# Altium footprint library TMDX654GPEVM_BRD.PcbLib: 153 footprints (part 2 of 12)
Each footprint in its own frame and in the unit in brackets; x right, y up, seen from the top. Pads: shape width x height; smd on the part's side, far side on the other; paste and mask are expansions set on the pad; w line width, h text height; cw(c..) or ccw(c..) is an arc to the next point about the centre after c.
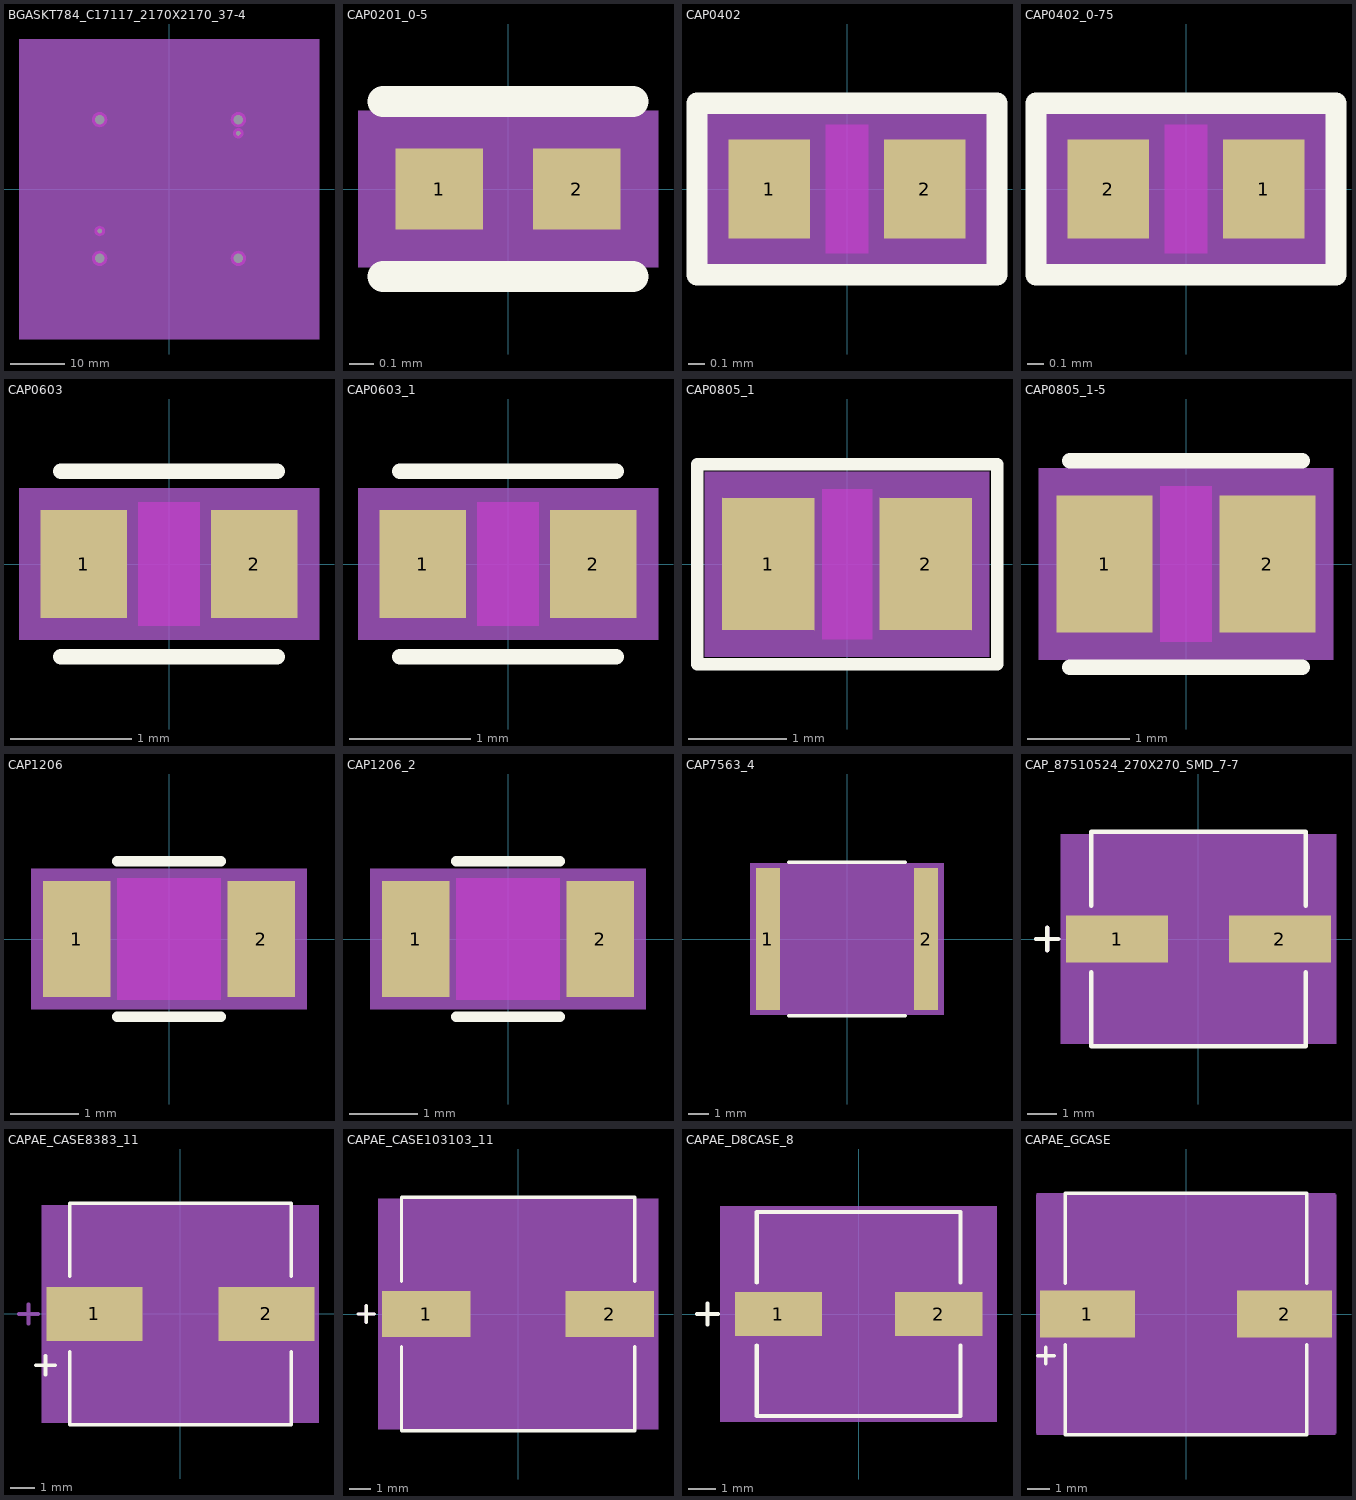
[diagram p1: the footprints below, top view; thin cyan lines are the x and y axes]

## BGASKT784_C17117_2170X2170_37-4 [mil] "BGASKT784_C17117_2170X2170_37-4"
pads (6):
  round 63 hole 68 unplated: ""(-506.4,-506.4) ""(-506.4,506.4) ""(506.4,-506.4) ""(506.4,506.4)
  round 29 hole 34 unplated: ""(-506.4,-306.4) ""(506.4,406.4)
Top Overlay:
  text ".Designator" at -970.24,-91.02 h30
Bottom Overlay:
  lines w6: -615,-615 615,-615 615,615 -615,615 -615,-615
Top Courtyard:
  dashed: -1092,-1092 1092,-1092 1092,1092 -1092,1092
Bottom Courtyard:
  dashed: -612,-612 612,-612 612,612 -612,612
Top 3D Body:
  region: -1095,-1095 1095,-1095 1095,1095 -1095,1095
Bottom 3D Body:
  region: -615,-615 615,-615 615,615 -615,615
Multi-Layer keep-out:
  drawing of 6 lines, arcs and shapes, not listed
Top Assembly:
  circle w6: c-410.43,425.2 r10
  lines w6: -555.61,-555 -555.61,555 574.39,555 574.39,-555 -555.61,-555
Bottom Assembly:
  lines w6: -605,-605 -605,605 605,605 605,-605 -605,-605
Bottom Component Outline:
  text "28" at 456,598.33 h20
  text "27" at 426,563.33 h20
  text "26" at 391,598.33 h20
  text "25" at 366,563.33 h20
  text "24" at 331,598.33 h20
  text "23" at 301,563.33 h20
  text "22" at 266,598.33 h20
  text "21" at 231,563.33 h20
  text "20" at 201,598.33 h20
  text "19" at 171,563.33 h20
  text "18" at 141,598.33 h20
  text "17" at 111,563.33 h20
  text "16" at 76,598.33 h20
  text "15" at 46,563.33 h20
  text "14" at 16,598.33 h20
  text "13" at -19,563.33 h20
  text "12" at -44,598.33 h20
  text "11" at -84,563.33 h20
  text "10" at -109,603.33 h20
  text "9" at -157.5,563.33 h20
  text "8" at -182.5,603.33 h20
  text "7" at -217.5,563.33 h20
  text "6" at -247.5,598.33 h20
  text "5" at -277.5,563.33 h20
  text "4" at -307.5,598.33 h20
  text "3" at -337.5,563.33 h20
  text "2" at -372.5,598.33 h20
  text "1" at -402.5,568.33 h20
  text "AH" at -609,-431.67 h20
  text "AG" at -569,-406.67 h20
  text "AF" at -614,-376.67 h20
  text "AE" at -574,-341.67 h20
  text "AD" at -609,-306.67 h20
  text "AC" at -574,-266.67 h20
  text "AB" at -609,-241.67 h20
  text "AA" at -574,-211.67 h20
  text "Y" at -602.5,-181.67 h20
  text "W" at -577.5,-151.67 h20
  text "V" at -602.5,-116.67 h20
  text "U" at -577.5,-86.67 h20
  text "T" at -602.5,-56.67 h20
  text "R" at -577.5,-21.67 h20
  text "P" at -602.5,8.33 h20
  text "N" at -577.5,38.33 h20
  text "M" at -602.5,73.33 h20
  text "L" at -577.5,103.33 h20
  text "K" at -602.5,133.33 h20
  text "J" at -582.5,163.33 h20
  text "H" at -602.5,198.33 h20
  text "G" at -582.5,233.33 h20
  text "F" at -602.5,263.33 h20
  text "E" at -582.5,288.33 h20
  text "D" at -597.5,328.33 h20
  text "C" at -582.5,358.33 h20
  text "B" at -597.5,388.33 h20
  text "A" at -582.5,413.33 h20
3D body: height 150, standoff 0, extent -1095,-1095 1095,1095
3D body: height 150, standoff 0, extent -615,-615 615,615

## CAP0201_0-5 [mil] "CAP0201_0-5"
pads (2):
  rect 14x13 smd: 1(-11.02,0) 2(11.02,0)
Top Overlay:
  lines w5: -20,-14 20,-14 ; -20,14 20,14
Top Courtyard:
  dashed: -24.02,-12.5 -24.02,12.5 24.02,12.5 24.02,-12.5
Top 3D Body:
  region: -22.05,-10.63 -22.05,10.63 22.05,10.63 22.05,-10.63
Mechanical 15:
  lines w6: -10,-5 10,-5 10,5 -10,5 -10,-5
  text "C436" at 1230,995.52 h30
Mechanical 16:
  lines w6: -10,-5 10,-5 10,5 -10,5 -10,-5
  text "C436" at 1230,995.52 h30
Mechanical 17:
  lines w6: -10,-5 10,-5 10,5 -10,5 -10,-5
  text "C436" at 1230,995.52 h30
Mechanical 18:
  lines w6: -10,-5 10,-5 10,5 -10,5 -10,-5
  text "C436" at 1230,995.52 h30
Mechanical 19:
  lines w6: -10,-5 10,-5 10,5 -10,5 -10,-5
  text "C436" at 1230,995.52 h30
Mechanical47:
  text "2" at 11.02,4 h10
  text "1" at -11.02,4 h10
Top Assembly:
  lines w6: -10,-5 10,-5 10,5 -10,5 -10,-5
Top Component Outline:
  text ".Designator" at 1186,1027.52 h30
3D body: height 150, standoff 0, extent -22.05,-10.63 22.05,10.63

## CAP0402 [mil] "CAP0402"
pads (2):
  rect 19x23 smd: 1(-18.11,0) 2(18.11,0)
Top Layer keep-out:
  region: -5,15 -5,-15 5,-15 5,15
Top Overlay:
  lines w5: -35,-20 -35,20 35,20 35,-20 -35,-20
  text ".Designator" at 135.98,288.5 h30
Top Courtyard:
  dashed: -34.61,-22 -34.61,22 34.61,22 34.61,-22
Top 3D Body:
  region: -31.5,-16.93 -31.5,16.93 31.5,16.93 31.5,-16.93
Mechanical 15:
  lines w6: -25,-15 -25,15 25,15 25,-15 -25,-15
  text "C659" at -69.02,-30.5 h30
Mechanical 16:
  lines w6: -25,-15 -25,15 25,15 25,-15 -25,-15
  text "C659" at -69.02,-30.5 h30
Mechanical 17:
  lines w6: -25,-15 -25,15 25,15 25,-15 -25,-15
  text "C659" at -69.02,-30.5 h30
Mechanical 18:
  lines w6: -25,-15 -25,15 25,15 25,-15 -25,-15
  text "C659" at -69.02,-30.5 h30
Mechanical 19:
  lines w6: -25,-15 -25,15 25,15 25,-15 -25,-15
  text "C659" at -69.02,-30.5 h30
Mechanical47:
  text "2" at 18.11,-4 h10
  text "1" at -18.11,-4 h10
Top Assembly:
  lines w6: -25,-15 -25,15 25,15 25,-15 -25,-15
3D body: height 150, standoff 0, extent -31.5,-16.93 31.5,16.93

## CAP0402_0-75 [mil] "CAP0402_0-75"
pads (2):
  rect 19x23 smd: 1(18.11,0) 2(-18.11,0)
Top Layer keep-out:
  region: 5,-15 5,15 -5,15 -5,-15
Top Overlay:
  lines w5: -35,-20 -35,20 35,20 35,-20 -35,-20
  text ".Designator" at 138.5,12.5 h30
Top Courtyard:
  dashed: 34.61,22 34.61,-22 -34.61,-22 -34.61,22
Top 3D Body:
  region: 31.5,16.93 31.5,-16.93 -31.5,-16.93 -31.5,16.93
Mechanical 15:
  lines w6: -25,-15 -25,15 25,15 25,-15 -25,-15
  text "C617" at 32.5,10.5 h30
Mechanical 16:
  lines w6: -25,-15 -25,15 25,15 25,-15 -25,-15
  text "C617" at 32.5,10.5 h30
Mechanical 17:
  lines w6: -25,-15 -25,15 25,15 25,-15 -25,-15
  text "C617" at 32.5,10.5 h30
Mechanical 18:
  lines w6: -25,-15 -25,15 25,15 25,-15 -25,-15
  text "C617" at 32.5,10.5 h30
Mechanical 19:
  lines w6: -25,-15 -25,15 25,15 25,-15 -25,-15
  text "C617" at 32.5,10.5 h30
Mechanical47:
  text "2" at -22.11,0 h10
  text "1" at 14.11,0 h10
Top Assembly:
  lines w6: -25,-15 -25,15 25,15 25,-15 -25,-15
3D body: height 150, standoff 0, extent -31.5,-16.93 31.5,16.93

## CAP0603 [mil] "CAP0603"
pads (2):
  rect 28x35 smd: 1(-27.56,0) 2(27.56,0)
Top Layer keep-out:
  region: -10,20 -10,-20 10,-20 10,20
Top Overlay:
  lines w5: -35,-30 35,-30 ; -35,30 35,30
  text ".Designator" at -5.02,-39.5 h30
Top Courtyard:
  dashed: -48.56,-24.5 -48.56,24.5 48.56,24.5 48.56,-24.5
Top 3D Body:
  region: -35,-20 -35,20 35,20 35,-20
Mechanical 10:
  lines w6: -35,-20 35,-20 35,20 -35,20 -35,-20
  text "C104" at 4.98,-19.5 h30
Mechanical 11:
  lines w6: -35,-20 35,-20 35,20 -35,20 -35,-20
  text "C104" at 4.98,-19.5 h30
Mechanical 12:
  lines w6: -35,-20 35,-20 35,20 -35,20 -35,-20
  text "C104" at 4.98,-19.5 h30
Mechanical 13:
  lines w6: -35,-20 35,-20 35,20 -35,20 -35,-20
  text "C104" at 4.98,-19.5 h30
Mechanical 14:
  lines w6: -35,-20 35,-20 35,20 -35,20 -35,-20
  text "C104" at 4.98,-19.5 h30
Mechanical47:
  text "2" at 27.56,4 h10
  text "1" at -27.56,4 h10
Top Assembly:
  lines w6: -35,-20 35,-20 35,20 -35,20 -35,-20
3D body: height 150, standoff 0, extent -35,-20 35,20

## CAP0603_1 [mil] "CAP0603_1"
pads (2):
  rect 28x35 smd: 1(-27.56,0) 2(27.56,0)
Top Layer keep-out:
  region: -10,20 -10,-20 10,-20 10,20
Top Overlay:
  lines w5: -35,-30 35,-30 ; -35,30 35,30
  text ".Designator" at 144.05,9.16 h30
Top Courtyard:
  dashed: -48.56,-24.5 -48.56,24.5 48.56,24.5 48.56,-24.5
Top 3D Body:
  region: -35,-20 -35,20 35,20 35,-20
Mechanical 15:
  lines w6: -35,-20 35,-20 35,20 -35,20 -35,-20
  text "C318" at -45.95,63.16 h30
Mechanical 16:
  lines w6: -35,-20 35,-20 35,20 -35,20 -35,-20
  text "C318" at -45.95,63.16 h30
Mechanical 17:
  lines w6: -35,-20 35,-20 35,20 -35,20 -35,-20
  text "C318" at -45.95,63.16 h30
Mechanical 18:
  lines w6: -35,-20 35,-20 35,20 -35,20 -35,-20
  text "C318" at -45.95,63.16 h30
Mechanical 19:
  lines w6: -35,-20 35,-20 35,20 -35,20 -35,-20
  text "C318" at -45.95,63.16 h30
Mechanical47:
  text "1" at -31.56,0 h10
  text "2" at 23.56,0 h10
Top Assembly:
  lines w6: -35,-20 35,-20 35,20 -35,20 -35,-20
3D body: height 150, standoff 0, extent -35,-20 35,20

## CAP0805_1 [mil] "CAP0805_1"
pads (2):
  rect 37x53 smd: 1(-31.5,0) 2(31.5,0)
Top Layer keep-out:
  region: -10,30 -10,-30 10,-30 10,30
Top Overlay:
  lines w5: -60,-40 -60,40 60,40 60,-40 -60,-40
  text ".Designator" at 46,90 h30
Top Courtyard:
  dashed: -57,-37 -57,37 57,37 57,-37
Top 3D Body:
  region: -45,-30 -45,30 45,30 45,-30
Mechanical 15:
  lines w6: -45,-30 45,-30 45,30 -45,30 -45,-30
  text "C681" at 43,80 h30
Mechanical 16:
  lines w6: -45,-30 45,-30 45,30 -45,30 -45,-30
  text "C681" at 43,80 h30
Mechanical 17:
  lines w6: -45,-30 45,-30 45,30 -45,30 -45,-30
  text "C681" at 43,80 h30
Mechanical 18:
  lines w6: -45,-30 45,-30 45,30 -45,30 -45,-30
  text "C681" at 43,80 h30
Mechanical 19:
  lines w6: -45,-30 45,-30 45,30 -45,30 -45,-30
  text "C681" at 43,80 h30
Mechanical47:
  text "2" at 31.5,4 h10
  text "1" at -31.5,4 h10
Top Assembly:
  lines w6: -45,-30 45,-30 45,30 -45,30 -45,-30
3D body: height 150, standoff 0, extent -45,-30 45,30

## CAP0805_1-5 [mil] "CAP0805_1-5"
pads (2):
  rect 37x53 smd: 1(-31.5,0) 2(31.5,0)
Top Layer keep-out:
  region: -10,30 -10,-30 10,-30 10,30
Top Overlay:
  lines w6: -45,-40 45,-40 ; -45,40 45,40
  text ".Designator" at -31,-80 h30
Top Courtyard:
  dashed: -57,-37 -57,37 57,37 57,-37
Top 3D Body:
  region: -45,-30 -45,30 45,30 45,-30
Mechanical 15:
  lines w6: -45,-30 -45,30 45,30 45,-30 -45,-30
  text "C340" at 59,-12 h30
Mechanical 16:
  lines w6: -45,-30 -45,30 45,30 45,-30 -45,-30
  text "C340" at 59,-12 h30
Mechanical 17:
  lines w6: -45,-30 -45,30 45,30 45,-30 -45,-30
  text "C340" at 59,-12 h30
Mechanical 18:
  lines w6: -45,-30 -45,30 45,30 45,-30 -45,-30
  text "C340" at 59,-12 h30
Mechanical 19:
  lines w6: -45,-30 -45,30 45,30 45,-30 -45,-30
  text "C340" at 59,-12 h30
Mechanical47:
  text "1" at -31.5,-4 h10
  text "2" at 31.5,-4 h10
Top Assembly:
  lines w6: -45,-30 -45,30 45,30 45,-30 -45,-30
3D body: height 150, standoff 0, extent -45,-30 45,30

## CAP1206 [mil] "CAP1206"
pads (2):
  rect 39x67 smd: 1(-53.15,0) 2(53.15,0)
Top Layer keep-out:
  region: -30,35 -30,-35 30,-35 30,35
Top Overlay:
  lines w6: -30,-45 30,-45 ; -30,45 30,45
  text ".Designator" at -41.51,-82.2 h30
Top Courtyard:
  dashed: -79.65,-40.5 -79.65,40.5 79.65,40.5 79.65,-40.5
Top 3D Body:
  region: -77,-39.5 -77,39.5 77,39.5 77,-39.5
Mechanical 15:
  lines w6: -65,-35 -65,35 65,35 65,-35 -65,-35
  text "C489" at -44.51,-14.21 h30
Mechanical 16:
  lines w6: -65,-35 -65,35 65,35 65,-35 -65,-35
  text "C489" at -44.51,-14.21 h30
Mechanical 17:
  lines w6: -65,-35 -65,35 65,35 65,-35 -65,-35
  text "C489" at -44.51,-14.21 h30
Mechanical 18:
  lines w6: -65,-35 -65,35 65,35 65,-35 -65,-35
  text "C489" at -44.51,-14.21 h30
Mechanical 19:
  lines w6: -65,-35 -65,35 65,35 65,-35 -65,-35
  text "C489" at -44.51,-14.21 h30
Mechanical47:
  text "2" at 53.15,-4 h10
  text "1" at -53.15,-4 h10
Top Assembly:
  lines w6: -65,-35 -65,35 65,35 65,-35 -65,-35
3D body: height 150, standoff 0, extent -77,-39.5 77,39.5

## CAP1206_2 [mil] "CAP1206_2"
pads (2):
  rect 39x67 smd: 1(-53.15,0) 2(53.15,0)
Top Layer keep-out:
  region: -30,35 -30,-35 30,-35 30,35
Top Overlay:
  lines w6: -30,-45 30,-45 ; -30,45 30,45
  text ".Designator" at 58.5,-65 h30
Top Courtyard:
  dashed: -79.65,-40.5 -79.65,40.5 79.65,40.5 79.65,-40.5
Top 3D Body:
  region: -77,-39.5 -77,39.5 77,39.5 77,-39.5
Mechanical 15:
  lines w6: -65,-35 -65,35 65,35 65,-35 -65,-35
  text "C290" at 48.5,15 h30
Mechanical 16:
  lines w6: -65,-35 -65,35 65,35 65,-35 -65,-35
  text "C290" at 48.5,15 h30
Mechanical 17:
  lines w6: -65,-35 -65,35 65,35 65,-35 -65,-35
  text "C290" at 48.5,15 h30
Mechanical 18:
  lines w6: -65,-35 -65,35 65,35 65,-35 -65,-35
  text "C290" at 48.5,15 h30
Mechanical 19:
  lines w6: -65,-35 -65,35 65,35 65,-35 -65,-35
  text "C290" at 48.5,15 h30
Mechanical47:
  text "2" at 53.15,4 h10
  text "1" at -53.15,4 h10
Top Assembly:
  lines w6: -65,-35 -65,35 65,35 65,-35 -65,-35
3D body: height 150, standoff 0, extent -77,-39.5 77,39.5

## CAP7563_4 [mil] "CAP7563_4"
pads (2):
  rect 45x268 smd: 1(-149.61,0) 2(149.61,0)
Top Overlay:
  lines w6: -110,-145 110,-145 ; -110,145 110,145
  text ".Designator" at 61,195 h30
Top Courtyard:
  dashed: -179.11,-141 -179.11,141 179.11,141 179.11,-141
Top 3D Body:
  region: -183,-143.5 -183,143.5 183,143.5 183,-143.5
Mechanical 15:
  lines w6: -155,-135 -155,135 155,135 155,-135 -155,-135
  text "C333" at 51,10 h30
Mechanical 16:
  lines w6: -155,-135 -155,135 155,135 155,-135 -155,-135
  text "C333" at 51,10 h30
Mechanical 17:
  lines w6: -155,-135 -155,135 155,135 155,-135 -155,-135
  text "C333" at 51,10 h30
Mechanical 18:
  lines w6: -155,-135 -155,135 155,135 155,-135 -155,-135
  text "C333" at 51,10 h30
Mechanical 19:
  lines w6: -155,-135 -155,135 155,135 155,-135 -155,-135
  text "C333" at 51,10 h30
Mechanical47:
  text "1" at -149.61,4 h10
  text "2" at 149.61,4 h10
Top Assembly:
  lines w6: -155,-135 -155,135 155,135 155,-135 -155,-135
3D body: height 150, standoff 0, extent -183,-143.5 183,143.5

## CAP_87510524_270X270_SMD_7-7 [mil] "CAP_87510524_270X270_SMD_7-7"
pads (2):
  rect 138x63 smd: 1(-110.24,0) 2(110.24,0)
Top Overlay:
  lines w6: -220,0 -190,0 ; -205,-15 -205,15 ; -145,-45 -145,-145 145,-145 145,-45 ; -145,45 -145,145 145,145 145,45
  text ".Designator" at 198.54,126 h30
Top Courtyard:
  dashed: -186.24,-142 -186.24,142 186.24,142 186.24,-142
Top 3D Body:
  region: -135,135 -135,-135 135,-135 135,135
Mechanical 15:
  circle w6: c0,0 r135
  lines w6: -220,0 -190,0 ; -205,-15 -205,15 ; -135,-105 -105,-135 135,-135 135,135 -105,135 -135,105 -135,-105
  text "C368" at -12.46,37 h30
Mechanical 16:
  circle w6: c0,0 r135
  lines w6: -220,0 -190,0 ; -205,-15 -205,15 ; -135,-105 -105,-135 135,-135 135,135 -105,135 -135,105 -135,-105
  text "C368" at -12.46,37 h30
Mechanical 17:
  circle w6: c0,0 r135
  lines w6: -220,0 -190,0 ; -205,-15 -205,15 ; -135,-105 -105,-135 135,-135 135,135 -105,135 -135,105 -135,-105
  text "C368" at -12.46,37 h30
Mechanical 18:
  circle w6: c0,0 r135
  lines w6: -220,0 -190,0 ; -205,-15 -205,15 ; -135,-105 -105,-135 135,-135 135,135 -105,135 -135,105 -135,-105
  text "C368" at -12.46,37 h30
Mechanical 19:
  circle w6: c0,0 r135
  lines w6: -220,0 -190,0 ; -205,-15 -205,15 ; -135,-105 -105,-135 135,-135 135,135 -105,135 -135,105 -135,-105
  text "C368" at -12.46,37 h30
Mechanical47:
  text "2" at 110.24,-4 h10
  text "1" at -110.24,-4 h10
Top Assembly:
  circle w6: c0,0 r135
  lines w6: -220,0 -190,0 ; -205,-15 -205,15 ; -135,-105 -105,-135 135,-135 135,135 -105,135 -135,105 -135,-105
3D body: height 150, standoff 0, extent -135,-135 135,135

## CAPAE_CASE8383_11 [mil] "CAPAE_CASE8383_11"
pads (2):
  rect 152x85 smd: 1(-135.83,0) 2(135.83,0)
Top Overlay:
  lines w6: -228,-81 -198,-81 ; -213,-96 -213,-66 ; -175,-60 -175,-175 175,-175 175,-60 ; -175,60 -175,175 175,175 175,60
  text ".Designator" at -193,88.55 h30
Top Courtyard:
  dashed: -218.83,-172 -218.83,172 218.83,172 218.83,-172
Top 3D Body:
  region: -165,165 -165,-165 165,-165 165,165
Mechanical 10:
  circle w6: c0,0 r165
  lines w6: -255,0 -225,0 ; -240,-15 -240,15 ; -165,-135 -135,-165 165,-165 165,165 -135,165 -165,135 -165,-135
  text "C24" at 14,-25.45 h30
Mechanical 11:
  circle w6: c0,0 r165
  lines w6: -255,0 -225,0 ; -240,-15 -240,15 ; -165,-135 -135,-165 165,-165 165,165 -135,165 -165,135 -165,-135
  text "C24" at 14,-25.45 h30
Mechanical 12:
  circle w6: c0,0 r165
  lines w6: -255,0 -225,0 ; -240,-15 -240,15 ; -165,-135 -135,-165 165,-165 165,165 -135,165 -165,135 -165,-135
  text "C24" at 14,-25.45 h30
Mechanical 13:
  circle w6: c0,0 r165
  lines w6: -255,0 -225,0 ; -240,-15 -240,15 ; -165,-135 -135,-165 165,-165 165,165 -135,165 -165,135 -165,-135
  text "C24" at 14,-25.45 h30
Mechanical 14:
  circle w6: c0,0 r165
  lines w6: -255,0 -225,0 ; -240,-15 -240,15 ; -165,-135 -135,-165 165,-165 165,165 -135,165 -165,135 -165,-135
  text "C24" at 14,-25.45 h30
Mechanical47:
  text "2" at 135.83,-4 h10
  text "1" at -135.83,-4 h10
Top Assembly:
  circle w6: c0,0 r165
  lines w6: -255,0 -225,0 ; -240,-15 -240,15 ; -165,-135 -135,-165 165,-165 165,165 -135,165 -165,135 -165,-135
3D body: height 150, standoff 0, extent -165,-165 165,165

## CAPAE_CASE103103_11 [mil] "CAPAE_CASE103103_11"
pads (2):
  rect 163x85 smd: 1(-169.29,0) 2(169.29,0)
Top Overlay:
  lines w6: -295,0 -265,0 ; -280,-15 -280,15 ; -215,-60 -215,-215 215,-215 215,-60 ; -215,60 -215,215 215,215 215,60
  text ".Designator" at 315,-39 h30
Top Courtyard:
  dashed: -257.79,-212 -257.79,212 257.79,212 257.79,-212
Top 3D Body:
  region: -205,205 -205,-205 205,-205 205,205
Mechanical 10:
  circle w6: c0,0 r205
  lines w6: -295,0 -265,0 ; -280,-15 -280,15 ; -205,-165 -165,-205 205,-205 205,205 -165,205 -205,165 -205,-165
  text "C72" at 11,-15 h30
Mechanical 11:
  circle w6: c0,0 r205
  lines w6: -295,0 -265,0 ; -280,-15 -280,15 ; -205,-165 -165,-205 205,-205 205,205 -165,205 -205,165 -205,-165
  text "C72" at 11,-15 h30
Mechanical 12:
  circle w6: c0,0 r205
  lines w6: -295,0 -265,0 ; -280,-15 -280,15 ; -205,-165 -165,-205 205,-205 205,205 -165,205 -205,165 -205,-165
  text "C72" at 11,-15 h30
Mechanical 13:
  circle w6: c0,0 r205
  lines w6: -295,0 -265,0 ; -280,-15 -280,15 ; -205,-165 -165,-205 205,-205 205,205 -165,205 -205,165 -205,-165
  text "C72" at 11,-15 h30
Mechanical 14:
  circle w6: c0,0 r205
  lines w6: -295,0 -265,0 ; -280,-15 -280,15 ; -205,-165 -165,-205 205,-205 205,205 -165,205 -205,165 -205,-165
  text "C72" at 11,-15 h30
Mechanical47:
  text "1" at -169.29,-4 h10
  text "2" at 169.29,-4 h10
Top Assembly:
  circle w6: c0,0 r205
  lines w6: -295,0 -265,0 ; -280,-15 -280,15 ; -205,-165 -165,-205 205,-205 205,205 -165,205 -205,165 -205,-165
3D body: height 150, standoff 0, extent -205,-205 205,205

## CAPAE_D8CASE_8 [mil] "CAPAE_D8CASE_8"
pads (2):
  rect 124x63 smd: 1(-114.17,0) 2(114.17,0)
Top Overlay:
  lines w6: -230,0 -200,0 ; -215,-15 -215,15 ; -145,-45 -145,-145 145,-145 145,-45 ; -145,45 -145,145 145,145 145,45
  text ".Designator" at 204.45,-11.5 h30
Top Courtyard:
  dashed: -183.17,-142 -183.17,142 183.17,142 183.17,-142
Top 3D Body:
  region: -197,-153.5 -197,153.5 197,153.5 197,-153.5
Mechanical 15:
  circle w6: c0,0 r135
  lines w6: -180,0 -150,0 ; -165,-15 -165,15 ; -135,-105 -105,-135 135,-135 135,135 -105,135 -135,105 -135,-105
  text "C367" at -13.55,34.5 h30
Mechanical 16:
  circle w6: c0,0 r135
  lines w6: -180,0 -150,0 ; -165,-15 -165,15 ; -135,-105 -105,-135 135,-135 135,135 -105,135 -135,105 -135,-105
  text "C367" at -13.55,34.5 h30
Mechanical 17:
  circle w6: c0,0 r135
  lines w6: -180,0 -150,0 ; -165,-15 -165,15 ; -135,-105 -105,-135 135,-135 135,135 -105,135 -135,105 -135,-105
  text "C367" at -13.55,34.5 h30
Mechanical 18:
  circle w6: c0,0 r135
  lines w6: -180,0 -150,0 ; -165,-15 -165,15 ; -135,-105 -105,-135 135,-135 135,135 -105,135 -135,105 -135,-105
  text "C367" at -13.55,34.5 h30
Mechanical 19:
  circle w6: c0,0 r135
  lines w6: -180,0 -150,0 ; -165,-15 -165,15 ; -135,-105 -105,-135 135,-135 135,135 -105,135 -135,105 -135,-105
  text "C367" at -13.55,34.5 h30
Mechanical47:
  text "2" at 114.17,-4 h10
  text "1" at -114.17,-4 h10
Top Assembly:
  circle w6: c0,0 r135
  lines w6: -180,0 -150,0 ; -165,-15 -165,15 ; -135,-105 -105,-135 135,-135 135,135 -105,135 -135,105 -135,-105
3D body: height 150, standoff 0, extent -197,-153.5 197,153.5

## CAPAE_GCASE [mil] "CAPAE_GCASE"
pads (2):
  rect 169x83 smd: 1(-175.2,0) 2(175.2,0)
Top Overlay:
  lines w6: -264.13,-73.94 -234.13,-73.94 ; -249.13,-88.94 -249.13,-58.94 ; -215,-55 -215,-215 215,-215 215,-55 ; -215,55 -215,215 215,215 215,55
  text ".Designator" at 39,270 h30
Top Courtyard:
  dashed: -266.7,-212 -266.7,212 266.7,212 266.7,-212
Top 3D Body:
  region: -265,215 -265,-215 265,-215 265,215
Mechanical 10:
  lines w6: -255,0 -225,0 ; -240,-15 -240,15 ; -205,-155 -155,-205 205,-205 205,205 -155,205 -205,155 -205,-155
  text "C39" at 59,15 h30
Mechanical 11:
  lines w6: -255,0 -225,0 ; -240,-15 -240,15 ; -205,-155 -155,-205 205,-205 205,205 -155,205 -205,155 -205,-155
  text "C39" at 59,15 h30
Mechanical 12:
  lines w6: -255,0 -225,0 ; -240,-15 -240,15 ; -205,-155 -155,-205 205,-205 205,205 -155,205 -205,155 -205,-155
  text "C39" at 59,15 h30
Mechanical 13:
  lines w6: -255,0 -225,0 ; -240,-15 -240,15 ; -205,-155 -155,-205 205,-205 205,205 -155,205 -205,155 -205,-155
  text "C39" at 59,15 h30
Mechanical 14:
  lines w6: -255,0 -225,0 ; -240,-15 -240,15 ; -205,-155 -155,-205 205,-205 205,205 -155,205 -205,155 -205,-155
  text "C39" at 59,15 h30
Mechanical47:
  text "1" at -171.2,0 h10
  text "2" at 179.2,0 h10
Top Assembly:
  lines w6: -255,0 -225,0 ; -240,-15 -240,15 ; -205,-155 -155,-205 205,-205 205,205 -155,205 -205,155 -205,-155
3D body: height 150, standoff 0, extent -265,-215 265,215